# Altium schematic symbol library TMM-103-01-S-D-SM.SchLib: 1 symbol
Pins are listed as number, name and electrical type; pins without a type are passive.

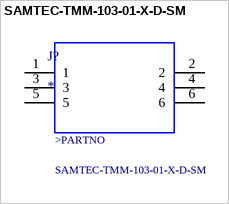
[diagram p0: symbol SAMTEC-TMM-103-01-X-D-SM]

## SAMTEC-TMM-103-01-X-D-SM
designator J?
MF: {'manufacturer': u'Samtec'}; MP: SAMTEC-TMM-103-01-X-D-SM; Package: None; Availability: Unavailable; Value: *; Price: None
footprint SAMTEC-TMM-103-01-X-D-SM
pins: 1, 2, 3, 4, 5, 6
text: >PARTNO